# EAGLE library part CC3120RNMARGKR (library Microcontroller)
IC RF TXRX+MCU WIFI 64VFQFN Manufacturer's datasheet <http://www.ti.com/lit/ds/symlink/cc3120.pdf>
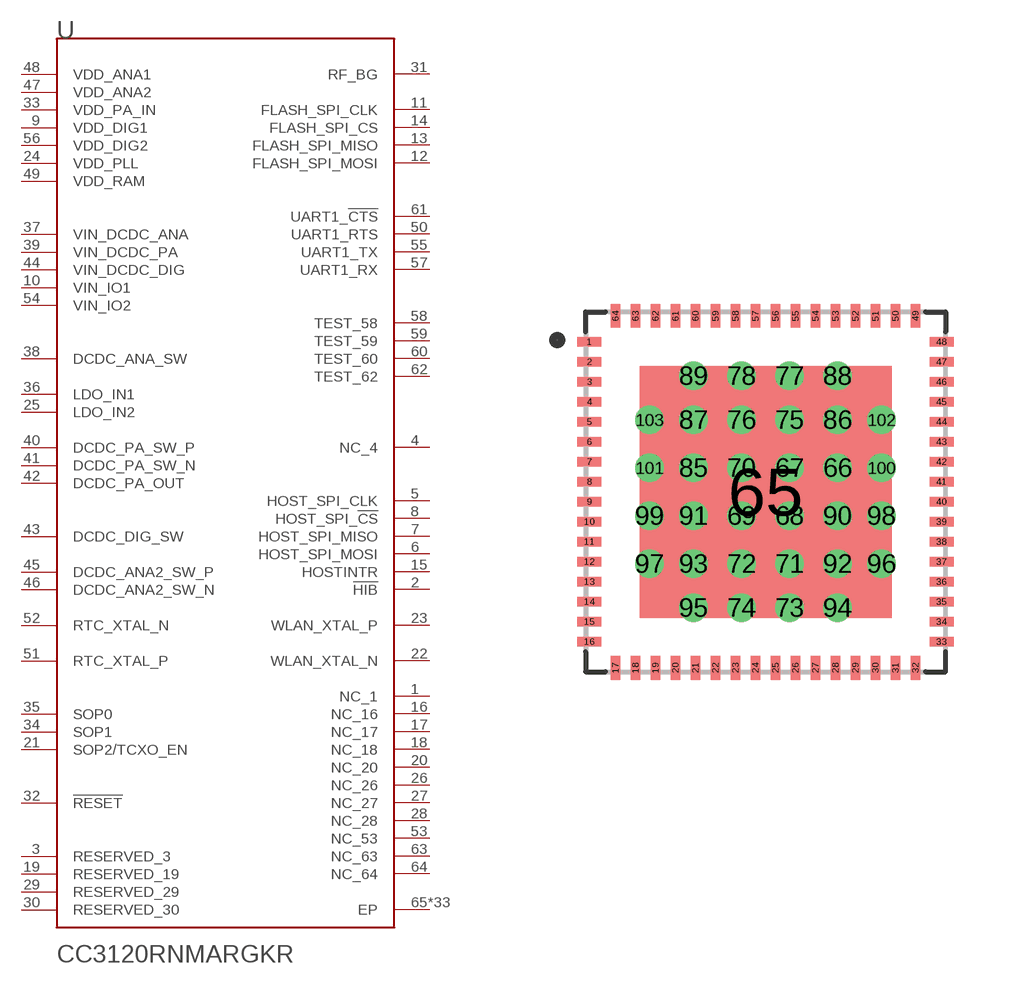
[diagram p15: symbol with the pads of 64-VFQFN; footprint 64-VFQFN]

Designator prefix U

## CC3120RNMARGKR (CREATED_BY: PCBLayout.com; DIGIKEY_PART_NUMBER: 296-45445-2-ND; MANUFACTURER: Texas Instruments; MPN: CC3120RNMARGKR; PACKAGE: 64-VFQFN)  [64-VFQFN]
1  NC_1  pas
2  !HIB  in
3  RESERVED_3
4  NC_4  pas
5  HOST_SPI_CLK  in
6  HOST_SPI_MOSI  in
7  HOST_SPI_MISO  out
8  HOST_SPI_!CS  in
9  VDD_DIG1  pwr
10  VIN_IO1  pwr
11  FLASH_SPI_CLK  out
12  FLASH_SPI_MOSI  out
13  FLASH_SPI_MISO  in
14  FLASH_SPI_CS  out
15  HOSTINTR  out
16  NC_16  pas
17  NC_17  pas
18  NC_18  pas
19  RESERVED_19
20  NC_20  pas
21  SOP2/TCXO_EN  out
22  WLAN_XTAL_N
23  WLAN_XTAL_P
24  VDD_PLL  pwr
25  LDO_IN2  pwr
26  NC_26  pas
27  NC_27  pas
28  NC_28  pas
29  RESERVED_29  out
30  RESERVED_30  out
31  RF_BG
32  !RESET
33  VDD_PA_IN  pwr
34  SOP1
35  SOP0
36  LDO_IN1  pwr
37  VIN_DCDC_ANA  pwr
38  DCDC_ANA_SW  pwr
39  VIN_DCDC_PA  pwr
40  DCDC_PA_SW_P  pwr
41  DCDC_PA_SW_N  pwr
42  DCDC_PA_OUT  pwr
43  DCDC_DIG_SW  pwr
44  VIN_DCDC_DIG  pwr
45  DCDC_ANA2_SW_P  pwr
46  DCDC_ANA2_SW_N  pwr
47  VDD_ANA2  pwr
48  VDD_ANA1  pwr
49  VDD_RAM  pwr
50  UART1_RTS  out
51  RTC_XTAL_P
52  RTC_XTAL_N
53  NC_53  pas
54  VIN_IO2  pwr
55  UART1_TX  out
56  VDD_DIG2  pwr
57  UART1_RX  in
58  TEST_58
59  TEST_59
60  TEST_60  out
61  UART1_!CTS  in
62  TEST_62  out
63  NC_63  pas
64  NC_64  pas
65  EP  pwr
66  EP  pwr
67  EP  pwr
68  EP  pwr
69  EP  pwr
70  EP  pwr
71  EP  pwr
72  EP  pwr
73  EP  pwr
74  EP  pwr
75  EP  pwr
76  EP  pwr
77  EP  pwr
78  EP  pwr
85  EP  pwr
86  EP  pwr
87  EP  pwr
88  EP  pwr
89  EP  pwr
90  EP  pwr
91  EP  pwr
92  EP  pwr
93  EP  pwr
94  EP  pwr
95  EP  pwr
96  EP  pwr
97  EP  pwr
98  EP  pwr
99  EP  pwr
100  EP  pwr
101  EP  pwr
102  EP  pwr
103  EP  pwr

## Footprint 64-VFQFN (pad centres in mm)
smd 0.6 x 0.24: 1 -4.4,3.75; 2 -4.4,3.25; 3 -4.4,2.75; 4 -4.4,2.25; 5 -4.4,1.75; 6 -4.4,1.25; 7 -4.4,0.75; 8 -4.4,0.25; 9 -4.4,-0.25; 10 -4.4,-0.75; 11 -4.4,-1.25; 12 -4.4,-1.75; 13 -4.4,-2.25; 14 -4.4,-2.75; 15 -4.4,-3.25; 16 -4.4,-3.75; 33 4.4,-3.75; 34 4.4,-3.25; 35 4.4,-2.75; 36 4.4,-2.25; 37 4.4,-1.75; 38 4.4,-1.25; 39 4.4,-0.75; 40 4.4,-0.25; 41 4.4,0.25; 42 4.4,0.75; 43 4.4,1.25; 44 4.4,1.75; 45 4.4,2.25; 46 4.4,2.75; 47 4.4,3.25; 48 4.4,3.75
smd 0.24 x 0.6: 17 -3.75,-4.4; 18 -3.25,-4.4; 19 -2.75,-4.4; 20 -2.25,-4.4; 21 -1.75,-4.4; 22 -1.25,-4.4; 23 -0.75,-4.4; 24 -0.25,-4.4; 25 0.25,-4.4; 26 0.75,-4.4; 27 1.25,-4.4; 28 1.75,-4.4; 29 2.25,-4.4; 30 2.75,-4.4; 31 3.25,-4.4; 32 3.75,-4.4; 49 3.75,4.4; 50 3.25,4.4; 51 2.75,4.4; 52 2.25,4.4; 53 1.75,4.4; 54 1.25,4.4; 55 0.75,4.4; 56 0.25,4.4; 57 -0.25,4.4; 58 -0.75,4.4; 59 -1.25,4.4; 60 -1.75,4.4; 61 -2.25,4.4; 62 -2.75,4.4; 63 -3.25,4.4; 64 -3.75,4.4
smd 6.3 x 6.3: 65 0,0
drill 0.2 pad 0.4: 66 1.8,0.6; 67 0.6,0.6; 68 0.6,-0.6; 69 -0.6,-0.6; 70 -0.6,0.6; 71 0.6,-1.8; 72 -0.6,-1.8; 73 0.6,-2.9; 74 -0.6,-2.9; 75 0.6,1.8; 76 -0.6,1.8; 77 0.6,2.9; 78 -0.6,2.9; 85 -1.8,0.6; 86 1.8,1.8; 87 -1.8,1.8; 88 1.8,2.9; 89 -1.8,2.9; 90 1.8,-0.6; 91 -1.8,-0.6; 92 1.8,-1.8; 93 -1.8,-1.8; 94 1.8,-2.9; 95 -1.8,-2.9; 96 2.9,-1.8; 97 -2.9,-1.8; 98 2.9,-0.6; 99 -2.9,-0.6; 100 2.9,0.6; 101 -2.9,0.6; 102 2.9,1.8; 103 -2.9,1.8